# EAGLE library part MILL-MAX-10PIN-Z (library Shell2013 (1))
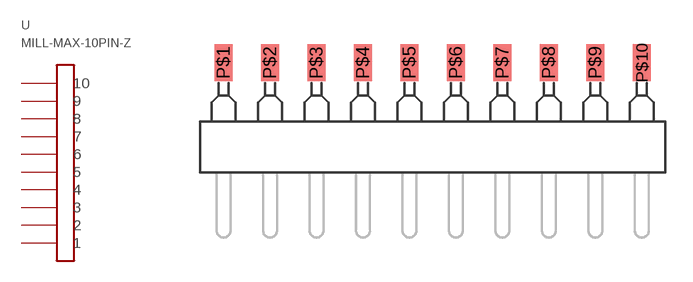
[diagram p15: symbol with the pads of MILL-MAX-830-10-010-40-028000; footprint MILL-MAX-830-10-010-40-028000]

Designator prefix -

## MILL-MAX-10PIN-Z  [MILL-MAX-830-10-010-40-028000]
P$1  1
P$2  2
P$3  3
P$4  4
P$5  5
P$6  6
P$7  7
P$8  8
P$9  9
P$10  10

## Footprint MILL-MAX-830-10-010-40-028000 (pad centres in mm)
smd 1 x 2: P$1 0,0; P$2 2.54,0; P$3 5.08,0; P$4 7.62,0; P$5 10.16,0; P$6 12.7,0; P$7 15.24,0; P$8 17.78,0; P$9 20.32,0; P$10 22.86,0